# Altium schematic symbol library Controller.SchLib: 4 symbols
Pins are listed as number, name and electrical type; pins without a type are passive.

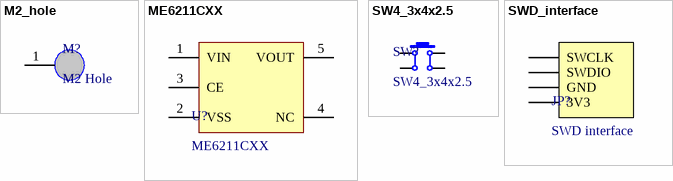
[diagram p0: symbols M2_hole to SWD_interface]

## M2_hole
designator M?, comment M2 Hole  (no BOM)
footprint M2 Hole
pins: 1 Hole

## ME6211CXX
designator U?
高精度、高纹波抑制比、低噪声、超快响应 LDO
footprint ME6211CXX (SOT23, 5-Leads, Body 2.90x2.80mm, Pitch 0.95mm, IPC High Density)
pins: 1 VIN, 2 VSS, 3 CE, 4 NC, 5 VOUT

## SW4_3x4x2.5
designator SW?
footprint SW4_3x4x2.5
pins: 1, 2, 3, 4

## SWD_interface
designator JP?, comment SWD interface  (no BOM)
footprint SWD_interface
pins: 1 SWCLK, 2 SWDIO, 3 GND, 4 3V3